# Altium footprint library C2Sv0 - Processor.PcbLib: 32 footprints (part 1 of 2)
Each footprint in its own frame and in the unit in brackets; x right, y up, seen from the top. Pads: shape width x height; smd on the part's side, far side on the other; paste and mask are expansions set on the pad; w line width, h text height; cw(c..) or ccw(c..) is an arc to the next point about the centre after c.
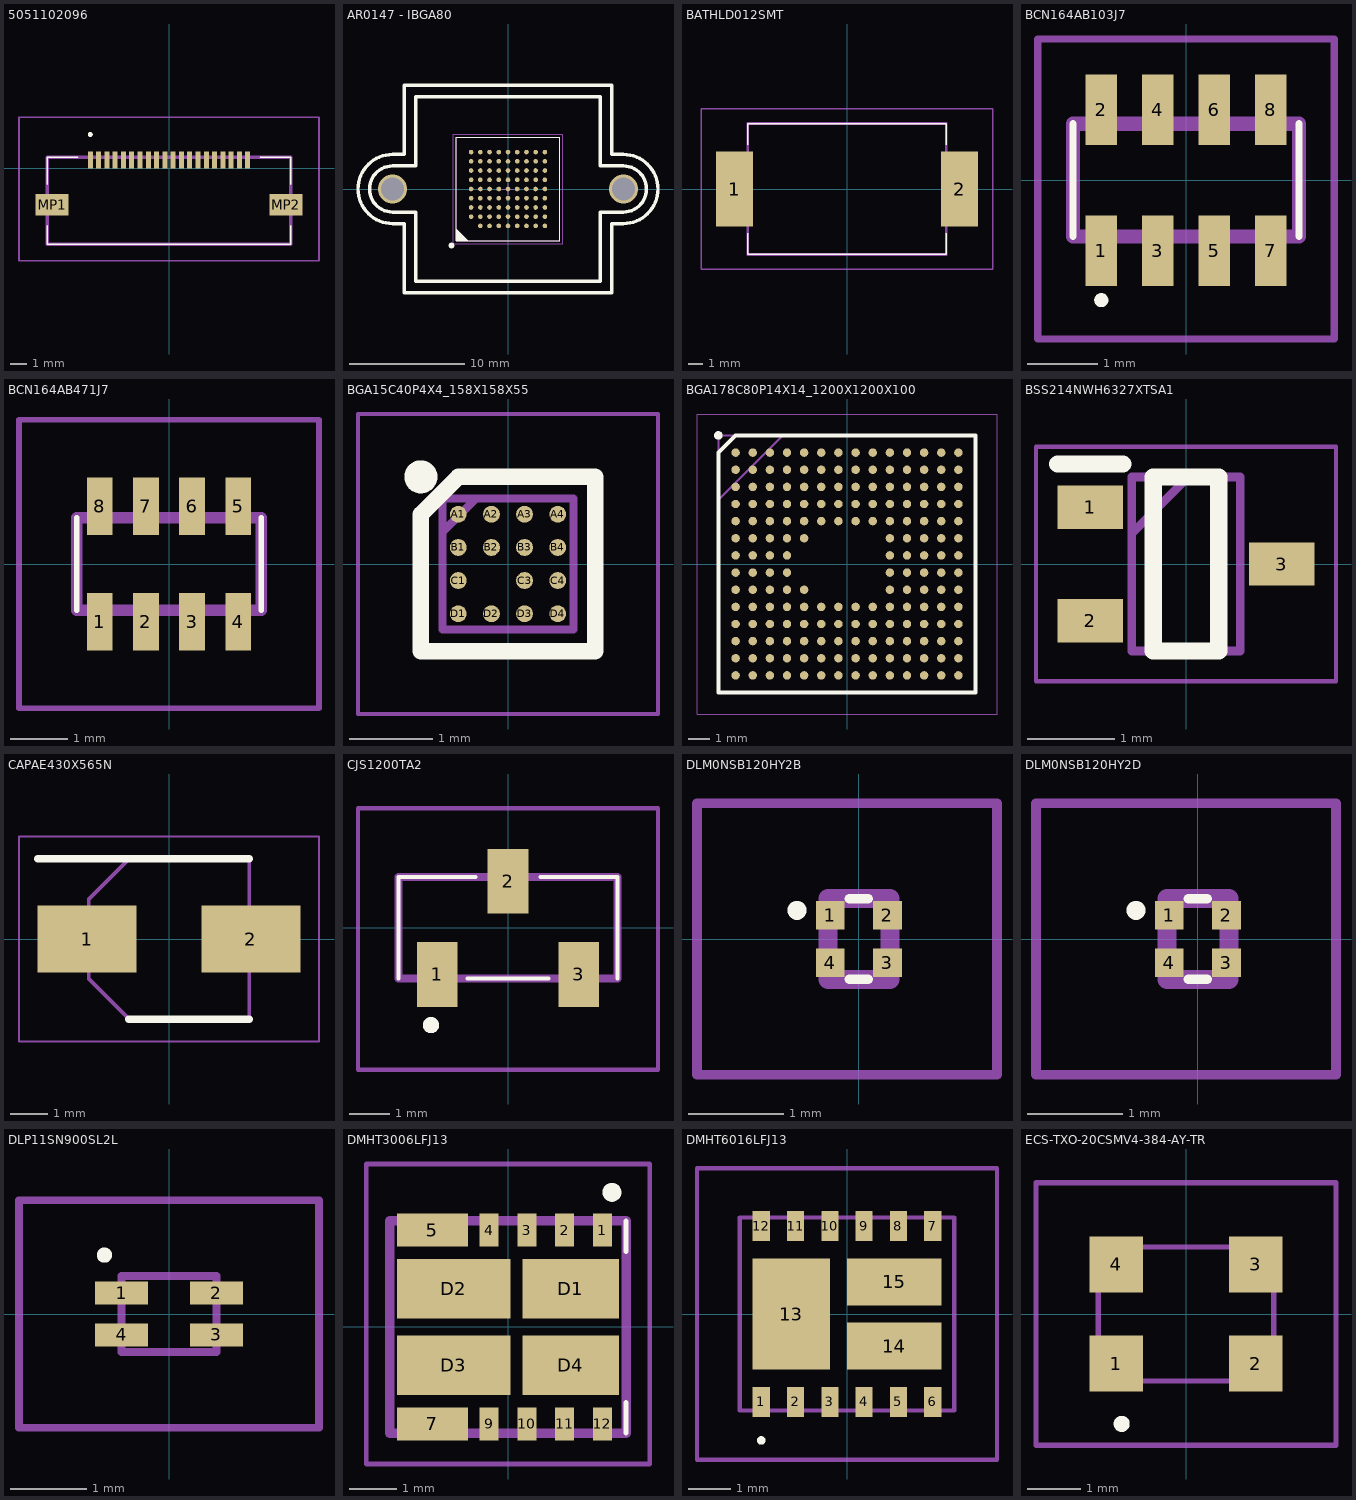
[diagram p0: the footprints below, top view; thin cyan lines are the x and y axes]

## 5051102096 [mm]
pads (22):
  rect 0.3x1 smd: 1(-4.75,0.5) 2(-4.25,0.5) 3(-3.75,0.5) 4(-3.25,0.5) 5(-2.75,0.5) 6(-2.25,0.5) 7(-1.75,0.5) 8(-1.25,0.5) 9(-0.75,0.5) 10(-0.25,0.5) 11(0.25,0.5) 12(0.75,0.5) 13(1.25,0.5) 14(1.75,0.5) 15(2.25,0.5) 16(2.75,0.5) 17(3.25,0.5) 18(3.75,0.5) 19(4.25,0.5) 20(4.75,0.5)
  rect 2x1.3 smd: MP1(-7.05,-2.185) MP2(7.05,-2.185)
Top Overlay:
  lines w0.1: -7.35,-4.585 -7.35,-3.46 -7.35,-4.585 ; -7.35,-4.585 7.35,-4.585 ; -7.35,-4.585 7.35,-4.585 ; -7.35,0.665 -7.35,-0.96 -7.35,0.665 ; -7.35,0.665 -5.5,0.665 -7.35,0.665 ; 7.35,-4.585 7.35,-3.46 7.35,-4.585 ; 7.35,0.665 7.35,-0.96 7.35,0.665 ; 7.35,0.665 5.5,0.665 7.35,0.665
  lines w0.2: -4.8,2.04 ccw(c-4.75,2.04) -4.7,2.04 ; -4.8,2.04 cw(c-4.75,2.04) -4.7,2.04 ; -4.8,2.04 ccw(c-4.75,2.04) -4.7,2.04
Mechanical 13:
  lines w0.2: -7.35,-4.585 -7.35,0.665 7.35,0.665 7.35,-4.585 -7.35,-4.585
Mechanical 15:
  lines w0.1: -9.05,-5.585 -9.05,3.09 9.05,3.09 9.05,-5.585 -9.05,-5.585
3D body "505110-2096.stp": height 1.9, standoff 0, extent -7.75,-4.53 7.75,0.77

## AR0147 - IBGA80 [mm]
height 1.5
pads (80):
  round 0.4 smd: A2(-3.2,-2.4) A3(-3.2,-1.6) A4(-3.2,-0.8) A5(-3.2,0) A6(-3.2,0.8) A7(-3.2,1.6) A8(-3.2,2.4) A9(-3.2,3.2) B1(-2.4,-3.2) B2(-2.4,-2.4) B3(-2.4,-1.6) B4(-2.4,-0.8) B5(-2.4,0) B6(-2.4,0.8) B7(-2.4,1.6) B8(-2.4,2.4) B9(-2.4,3.2) C1(-1.6,-3.2) C2(-1.6,-2.4) C3(-1.6,-1.6) C4(-1.6,-0.8) C5(-1.6,0) C6(-1.6,0.8) C7(-1.6,1.6) C8(-1.6,2.4) C9(-1.6,3.2) D1(-0.8,-3.2) D2(-0.8,-2.4) D3(-0.8,-1.6) D4(-0.8,-0.8) D5(-0.8,0) D6(-0.8,0.8) D7(-0.8,1.6) D8(-0.8,2.4) D9(-0.8,3.2) E1(0,-3.2) E2(0,-2.4) E3(0,-1.6) E4(0,-0.8) E5(0,0) E6(0,0.8) E7(0,1.6) E8(0,2.4) E9(0,3.2) F1(0.8,-3.2) F2(0.8,-2.4) F3(0.8,-1.6) F4(0.8,-0.8) F5(0.8,0) F6(0.8,0.8) F7(0.8,1.6) F8(0.8,2.4) F9(0.8,3.2) G1(1.6,-3.2) G2(1.6,-2.4) G3(1.6,-1.6) G4(1.6,-0.8) G5(1.6,0) G6(1.6,0.8) G7(1.6,1.6) G8(1.6,2.4) G9(1.6,3.2) H1(2.4,-3.2) H2(2.4,-2.4) H3(2.4,-1.6) H4(2.4,-0.8) H5(2.4,0) H6(2.4,0.8) H7(2.4,1.6) H8(2.4,2.4) H9(2.4,3.2) J1(3.2,-3.2) J2(3.2,-2.4) J3(3.2,-1.6) J4(3.2,-0.8) J5(3.2,0) J6(3.2,0.8) J7(3.2,1.6) J8(3.2,2.4) J9(3.2,3.2)
via -10,0 diameter 2.5 hole 2
via 10,0 diameter 2.5 hole 2
Top Overlay:
  circle w0.25: c-4.9,-4.9 r0.125
  region: -4.5,-3.5 -3.5,-4.5 -4.5,-4.5
  lines w0.1: -4.5,-3.5 -3.5,-4.5 ; -4.5,-4.5 -4.5,4.5 4.5,4.5 4.5,-4.5 -4.5,-4.5
  lines w0.3: -10,-3 cw(c-10,0) -10,3 -9,3 -9,9 9,9 9,3 10,3 cw(c10,0) 10,-3 9,-3 9,-9 -9,-9 -9,-3 -10,-3 ; -10,-2 cw(c-10,0) -10,2 -8,2 -8,8 8,8 8,2 10,2 cw(c10,0) 10,-2 8,-2 8,-8 -8,-8 -8,-2 -10,-2
Mechanical 13:
  lines w0.1: -4.5,-4.5 -4.5,4.5 4.5,4.5 4.5,-4.5 -4.5,-4.5
Mechanical 15:
  lines w0.05: -4.75,-4.75 -4.75,4.75 4.75,4.75 4.75,-4.75 -4.75,-4.75
  lines w0.1: -0.5,0 0.5,0 ; 0,-0.5 0,0.5
3D body "AR0147 - IBGA80.step": height 1.5, standoff 0, extent -4.5,-4.5 4.5,4.5

## BATHLD012SMT [mm]
pads (2):
  rect 2.5x5.1 smd: 1(-7.65,0) 2(7.65,0)
Top Overlay:
  lines w0.1: -6.75,-3 -6.75,-4.45 6.75,-4.45 6.75,-3 ; -6.75,3 -6.75,4.45 6.75,4.45 6.75,3
Mechanical 13:
  lines w0.2: -6.75,-4.45 -6.75,4.45 6.75,4.45 6.75,-4.45 -6.75,-4.45
Mechanical 15:
  lines w0.1: -9.9,-5.45 -9.9,5.45 9.9,5.45 9.9,-5.45 -9.9,-5.45
3D body "BAT-HLD-012-SMT.stp": height 3.6, standoff 0, extent -7.65,-4.747 7.65,4.746

## BCN164AB103J7 [mm]
pads (8):
  rect 0.45x1 smd: 1(-1.2,-1) 2(-1.2,1) 3(-0.4,-1) 4(-0.4,1) 5(0.4,-1) 6(0.4,1) 7(1.2,-1) 8(1.2,1)
Top Overlay:
  lines w0.1: -1.6,-0.8 -1.6,0.8 ; 1.6,-0.8 1.6,0.8 ; -1.25,-1.7 cw(c-1.2,-1.7) -1.15,-1.7 cw(c-1.2,-1.7) -1.25,-1.7
Mechanical 13:
  lines w0.2: -1.6,-0.8 1.6,-0.8 1.6,0.8 -1.6,0.8 -1.6,-0.8
Mechanical 15:
  lines w0.1: -2.1,-2.25 2.1,-2.25 2.1,2 -2.1,2 -2.1,-2.25
3D body "BCN164AB103J7.stp": height 0.51, standoff 0, extent -1.6,-0.93 1.6,0.67

## BCN164AB471J7 [mm]
pads (8):
  rect 0.45x1 smd: 1(-1.2,-1) 2(-0.4,-1) 3(0.4,-1) 4(1.2,-1) 5(1.2,1) 6(0.4,1) 7(-0.4,1) 8(-1.2,1)
Top Overlay:
  lines w0.1: -1.6,-0.8 -1.6,0.8 ; 1.6,-0.8 1.6,0.8
Mechanical 13:
  lines w0.2: -1.6,-0.8 1.6,-0.8 1.6,0.8 -1.6,0.8 -1.6,-0.8
Mechanical 15:
  lines w0.1: -2.6,-2.5 2.6,-2.5 2.6,2.5 -2.6,2.5 -2.6,-2.5
3D body "BCN164AB471J7.stp": height 0.7, standoff 0, extent -1.6,-1.455 1.6,1.455

## BGA15C40P4X4_158X158X55 [mm]
pads (15):
  round 0.204 smd: A1(-0.6,0.6) A2(-0.2,0.6) A3(0.2,0.6) A4(0.6,0.6) B1(-0.6,0.2) B2(-0.2,0.2) B3(0.2,0.2) B4(0.6,0.2) C1(-0.6,-0.2) C3(0.2,-0.2) C4(0.6,-0.2) D1(-0.6,-0.6) D2(-0.2,-0.6) D3(0.2,-0.6) D4(0.6,-0.6)
Top Overlay:
  circle w0.2: c-1.052,1.052 r0.1
  lines w0.2: -1.052,-1.052 -1.052,0.6 -0.6,1.052 1.052,1.052 1.052,-1.052 -1.052,-1.052
Mechanical 13:
  lines w0.1: -0.79,0.385 -0.385,0.79 ; -0.79,-0.79 -0.79,0.79 0.79,0.79 0.79,-0.79 -0.79,-0.79
Mechanical 15:
  lines w0.05: -1.81,-1.81 -1.81,1.81 1.81,1.81 1.81,-1.81 -1.81,-1.81
3D body "EMIF06-USD05F3.stp": height 0.55, standoff 0, extent -0.79,-0.79 0.79,0.79

## BGA178C80P14X14_1200X1200X100 [mm]
pads (178):
  round 0.394 smd: A1(-5.2,5.2) A2(-4.4,5.2) A3(-3.6,5.2) A4(-2.8,5.2) A5(-2,5.2) A6(-1.2,5.2) A7(-0.4,5.2) A8(0.4,5.2) A9(1.2,5.2) A10(2,5.2) A11(2.8,5.2) A12(3.6,5.2) A13(4.4,5.2) A14(5.2,5.2) B1(-5.2,4.4) B2(-4.4,4.4) B3(-3.6,4.4) B4(-2.8,4.4) B5(-2,4.4) B6(-1.2,4.4) B7(-0.4,4.4) B8(0.4,4.4) B9(1.2,4.4) B10(2,4.4) B11(2.8,4.4) B12(3.6,4.4) B13(4.4,4.4) B14(5.2,4.4) C1(-5.2,3.6) C2(-4.4,3.6) C3(-3.6,3.6) C4(-2.8,3.6) C5(-2,3.6) C6(-1.2,3.6) C7(-0.4,3.6) C8(0.4,3.6) C9(1.2,3.6) C10(2,3.6) C11(2.8,3.6) C12(3.6,3.6) C13(4.4,3.6) C14(5.2,3.6) D1(-5.2,2.8) D2(-4.4,2.8) D3(-3.6,2.8) D4(-2.8,2.8) D5(-2,2.8) D6(-1.2,2.8) D7(-0.4,2.8) D8(0.4,2.8) D9(1.2,2.8) D10(2,2.8) D11(2.8,2.8) D12(3.6,2.8) D13(4.4,2.8) D14(5.2,2.8) E1(-5.2,2) E2(-4.4,2) E3(-3.6,2) E4(-2.8,2) E5(-2,2) E6(-1.2,2) E7(-0.4,2) E8(0.4,2) E9(1.2,2) E10(2,2) E11(2.8,2) E12(3.6,2) E13(4.4,2) E14(5.2,2) F1(-5.2,1.2) F2(-4.4,1.2) F3(-3.6,1.2) F4(-2.8,1.2) F5(-2,1.2) F10(2,1.2) F11(2.8,1.2) F12(3.6,1.2) F13(4.4,1.2) F14(5.2,1.2) G1(-5.2,0.4) G2(-4.4,0.4) G3(-3.6,0.4) G4(-2.8,0.4) G10(2,0.4) G11(2.8,0.4) G12(3.6,0.4) G13(4.4,0.4) G14(5.2,0.4) H1(-5.2,-0.4) H2(-4.4,-0.4) H3(-3.6,-0.4) H4(-2.8,-0.4) H10(2,-0.4) H11(2.8,-0.4) H12(3.6,-0.4) H13(4.4,-0.4) H14(5.2,-0.4) J1(-5.2,-1.2) J2(-4.4,-1.2) J3(-3.6,-1.2) J4(-2.8,-1.2) J5(-2,-1.2) J10(2,-1.2) J11(2.8,-1.2) J12(3.6,-1.2) J13(4.4,-1.2) J14(5.2,-1.2) K1(-5.2,-2) K2(-4.4,-2) K3(-3.6,-2) K4(-2.8,-2) K5(-2,-2) K6(-1.2,-2) K7(-0.4,-2) K8(0.4,-2) K9(1.2,-2) K10(2,-2) K11(2.8,-2) K12(3.6,-2) K13(4.4,-2) K14(5.2,-2) L1(-5.2,-2.8) L2(-4.4,-2.8) L3(-3.6,-2.8) L4(-2.8,-2.8) L5(-2,-2.8) L6(-1.2,-2.8) L7(-0.4,-2.8) L8(0.4,-2.8) L9(1.2,-2.8) L10(2,-2.8) L11(2.8,-2.8) L12(3.6,-2.8) L13(4.4,-2.8) L14(5.2,-2.8) M1(-5.2,-3.6) M2(-4.4,-3.6) M3(-3.6,-3.6) M4(-2.8,-3.6) M5(-2,-3.6) M6(-1.2,-3.6) M7(-0.4,-3.6) M8(0.4,-3.6) M9(1.2,-3.6) M10(2,-3.6) M11(2.8,-3.6) M12(3.6,-3.6) M13(4.4,-3.6) M14(5.2,-3.6) N1(-5.2,-4.4) N2(-4.4,-4.4) N3(-3.6,-4.4) N4(-2.8,-4.4) N5(-2,-4.4) N6(-1.2,-4.4) N7(-0.4,-4.4) N8(0.4,-4.4) N9(1.2,-4.4) N10(2,-4.4) N11(2.8,-4.4) N12(3.6,-4.4) N13(4.4,-4.4) N14(5.2,-4.4) P1(-5.2,-5.2) P2(-4.4,-5.2) P3(-3.6,-5.2) P4(-2.8,-5.2) P5(-2,-5.2) P6(-1.2,-5.2) P7(-0.4,-5.2) P8(0.4,-5.2) P9(1.2,-5.2) P10(2,-5.2) P11(2.8,-5.2) P12(3.6,-5.2) P13(4.4,-5.2) P14(5.2,-5.2)
Top Overlay:
  circle w0.2: c-6,6 r0.1
  lines w0.2: -6,-6 -6,5.2 -5.2,6 6,6 6,-6 -6,-6
Mechanical 13:
  lines w0.1: -6,3 -3,6 ; -6,-6 -6,6 6,6 6,-6 -6,-6
Mechanical 15:
  lines w0.05: -7,-7 -7,7 7,7 7,-7 -7,-7
3D body "STM32N657I0H3Q.stp": height 1, standoff 0, extent -6,-6 6,6

## BSS214NWH6327XTSA1 [mm]
pads (3):
  rect 0.75x0.5 smd: 1(-1.1,0.65) 2(-1.1,-0.65) 3(1.1,0)
Top Overlay:
  lines w0.2: -1.475,1.15 -0.725,1.15 ; -0.375,-1 -0.375,1 0.375,1 0.375,-1 -0.375,-1
Mechanical 13:
  lines w0.1: -0.625,0.35 0.025,1 ; -0.625,-1 -0.625,1 0.625,1 0.625,-1 -0.625,-1
Mechanical 15:
  lines w0.05: -1.725,-1.35 -1.725,1.35 1.725,1.35 1.725,-1.35 -1.725,-1.35
3D body "BSS214NWH6327XTSA1.stp": height 1, standoff 0, extent -1.05,-1 1.05,1

## CAPAE430X565N [mm]
pads (2):
  rect 2.65x1.8 smd: 1(-2.2,0) 2(2.2,0)
Top Overlay:
  lines w0.2: -3.525,2.15 2.15,2.15 ; -1.075,-2.15 2.15,-2.15
Mechanical 13:
  lines w0.1: -2.15,-1.075 -1.075,-2.15 2.15,-2.15 2.15,2.15 -1.075,2.15 -2.15,1.075 -2.15,-1.075
Mechanical 15:
  lines w0.05: -4.025,-2.75 -4.025,2.75 4.025,2.75 4.025,-2.75 -4.025,-2.75
3D body "EDH106M016A9BAA.stp": height 5.66, standoff 0, extent -2.6,-2.25 2.6,2.25

## CJS1200TA2 [mm]
pads (3):
  rect 1x1.6 smd: 1(-1.75,-1.15) 2(0,1.15) 3(1.75,-1.15)
Top Overlay:
  lines w0.1: -2.7,-1.25 -2.7,1.25 -0.8,1.25 ; -1,-1.25 1,-1.25 ; 0.8,1.25 2.7,1.25 2.7,-1.25
  lines w0.2: -2,-2.4 cw(c-1.9,-2.4) -1.8,-2.4 cw(c-1.9,-2.4) -2,-2.4
Mechanical 13:
  lines w0.2: -2.7,-1.25 -2.7,1.25 2.7,1.25 2.7,-1.25 -2.7,-1.25
Mechanical 15:
  lines w0.1: -3.7,-3.5 -3.7,2.95 3.7,2.95 3.7,-3.5 -3.7,-3.5
3D body "CJS-1200TA2.stp": height 2.52, standoff 0, extent -2.7,-1.4 2.7,1.4

## DLM0NSB120HY2B [mm]
pads (4):
  rect 0.3x0.3 smd: 1(-0.3,0.25) 2(0.3,0.25) 3(0.3,-0.25) 4(-0.3,-0.25)
Top Overlay:
  lines w0.1: -0.1,-0.425 0.1,-0.425 ; -0.1,0.425 0.1,0.425 ; -0.7,0.3 ccw(c-0.65,0.3) -0.6,0.3 ccw(c-0.65,0.3) -0.7,0.3
Mechanical 13:
  lines w0.2: -0.325,-0.425 -0.325,0.425 0.325,0.425 0.325,-0.425 -0.325,-0.425
Mechanical 15:
  lines w0.1: -1.7,-1.425 -1.7,1.425 1.45,1.425 1.45,-1.425 -1.7,-1.425
3D body "DLM0NSB120HY2D.stp": height 0.45, standoff 0, extent -0.425,-0.325 0.425,0.325

## DLM0NSB120HY2D [mm]
pads (4):
  rect 0.3x0.3 smd: 1(-0.3,0.25) 2(0.3,0.25) 3(0.3,-0.25) 4(-0.3,-0.25)
Top Overlay:
  lines w0.1: -0.1,-0.425 0.1,-0.425 ; -0.1,0.425 0.1,0.425 ; -0.7,0.3 ccw(c-0.65,0.3) -0.6,0.3 ccw(c-0.65,0.3) -0.7,0.3
Mechanical 13:
  lines w0.2: -0.325,-0.425 -0.325,0.425 0.325,0.425 0.325,-0.425 -0.325,-0.425
Mechanical 15:
  lines w0.1: -1.7,-1.425 -1.7,1.425 1.45,1.425 1.45,-1.425 -1.7,-1.425
3D body "DLM0NSB120HY2D.stp": height 0.45, standoff 0, extent -0.425,-0.325 0.425,0.325

## DLP11SN900SL2L [mm]
pads (4):
  rect 0.7x0.3 smd: 1(-0.625,0.275) 2(0.625,0.275) 3(0.625,-0.275) 4(-0.625,-0.275)
Top Overlay:
  lines w0.1: -0.9,0.775 cw(c-0.85,0.775) -0.8,0.775 cw(c-0.85,0.775) -0.9,0.775
Mechanical 13:
  lines w0.1: -0.625,-0.5 -0.625,0.5 0.625,0.5 0.625,-0.5 -0.625,-0.5
Mechanical 15:
  lines w0.1: -1.975,-1.5 -1.975,1.5 1.975,1.5 1.975,-1.5 -1.975,-1.5
3D body "DLP11SN900SL2L.stp": height 1.02, standoff 0, extent -0.945,-0.5 0.945,0.5

## DMHT3006LFJ13 [mm]
pads (14):
  rect 0.4x0.7 smd: 1(2,2.05) 2(1.2,2.05) 3(0.4,2.05) 4(-0.4,2.05) 9(-0.4,-2.05) 10(0.4,-2.05) 11(1.2,-2.05) 12(2,-2.05)
  rect 1.5x0.7 smd: 5(-1.6,2.05) 7(-1.6,-2.05)
  rect 2.04x1.26 smd: D1(1.33,0.81) D4(1.33,-0.81)
  rect 2.4x1.26 smd: D2(-1.15,0.81) D3(-1.15,-0.81)
Top Overlay:
  lines w0.1: 2.5,-2.25 2.5,-1.6 ; 2.5,1.6 2.5,2.25
  lines w0.2: 2.1,2.85 ccw(c2.2,2.85) 2.3,2.85 ccw(c2.2,2.85) 2.1,2.85
Mechanical 13:
  lines w0.2: -2.5,-2.25 2.5,-2.25 2.5,2.25 -2.5,2.25 -2.5,-2.25
Mechanical 15:
  lines w0.1: -3,-2.9 3,-2.9 3,3.45 -3,3.45 -3,-2.9
3D body "DMHT3006LFJ-13.stp": height 0.92, standoff 0, extent -2.5,-2.36 2.5,2.36

## DMHT6016LFJ13 [mm]
pads (15):
  rect 0.4x0.7 smd: 1(-2,-2.05) 2(-1.2,-2.05) 3(-0.4,-2.05) 4(0.4,-2.05) 5(1.2,-2.05) 6(2,-2.05) 7(2,2.05) 8(1.2,2.05) 9(0.4,2.05) 10(-0.4,2.05) 11(-1.2,2.05) 12(-2,2.05)
  rect 1.8x2.6 smd: 13(-1.3,0)
  rect 2.2x1.1 smd: 14(1.1,-0.75) 15(1.1,0.75)
Top Overlay:
  lines w0.1: -2,-3 cw(c-2,-2.95) -2,-2.9 cw(c-2,-2.95) -2,-3
Mechanical 13:
  lines w0.1: -2.5,-2.25 -2.5,2.25 2.5,2.25 2.5,-2.25 -2.5,-2.25
Mechanical 15:
  lines w0.1: -3.5,-3.4 -3.5,3.4 3.5,3.4 3.5,-3.4 -3.5,-3.4
3D body "DMHT6016LFJ-13.stp": height 0.8, standoff 0, extent -2.525,-2.275 2.525,2.275

## ECS-TXO-20CSMV4-384-AY-TR [mm]
pads (4):
  rect 1x1.05 smd: 1(-1.3,-0.925) 2(1.3,-0.925) 3(1.3,0.925) 4(-1.3,0.925)
Top Overlay:
  lines w0.2: -1.2,-2.1 ccw(c-1.2,-2.05) -1.2,-2 ; -1.2,-2.1 cw(c-1.2,-2.05) -1.2,-2 ; -1.2,-2.1 ccw(c-1.2,-2.05) -1.2,-2
Mechanical 13:
  lines w0.1: -1.64,-1.25 -1.64,1.25 1.64,1.25 1.64,-1.25 -1.64,-1.25
Mechanical 15:
  lines w0.1: -2.8,-2.45 -2.8,2.45 2.8,2.45 2.8,-2.45 -2.8,-2.45
3D body "ECS-327TXO-30-TR.stp": height 1.5, standoff 0, extent -1.7,-1.35 1.7,1.35